# Altium footprint library SparkFun-Electromechanical.PCBLIB: 11 footprints
Each footprint in its own frame and in the unit in brackets; x right, y up, seen from the top. Pads: shape width x height; smd on the part's side, far side on the other; paste and mask are expansions set on the pad; w line width, h text height; cw(c..) or ccw(c..) is an arc to the next point about the centre after c.
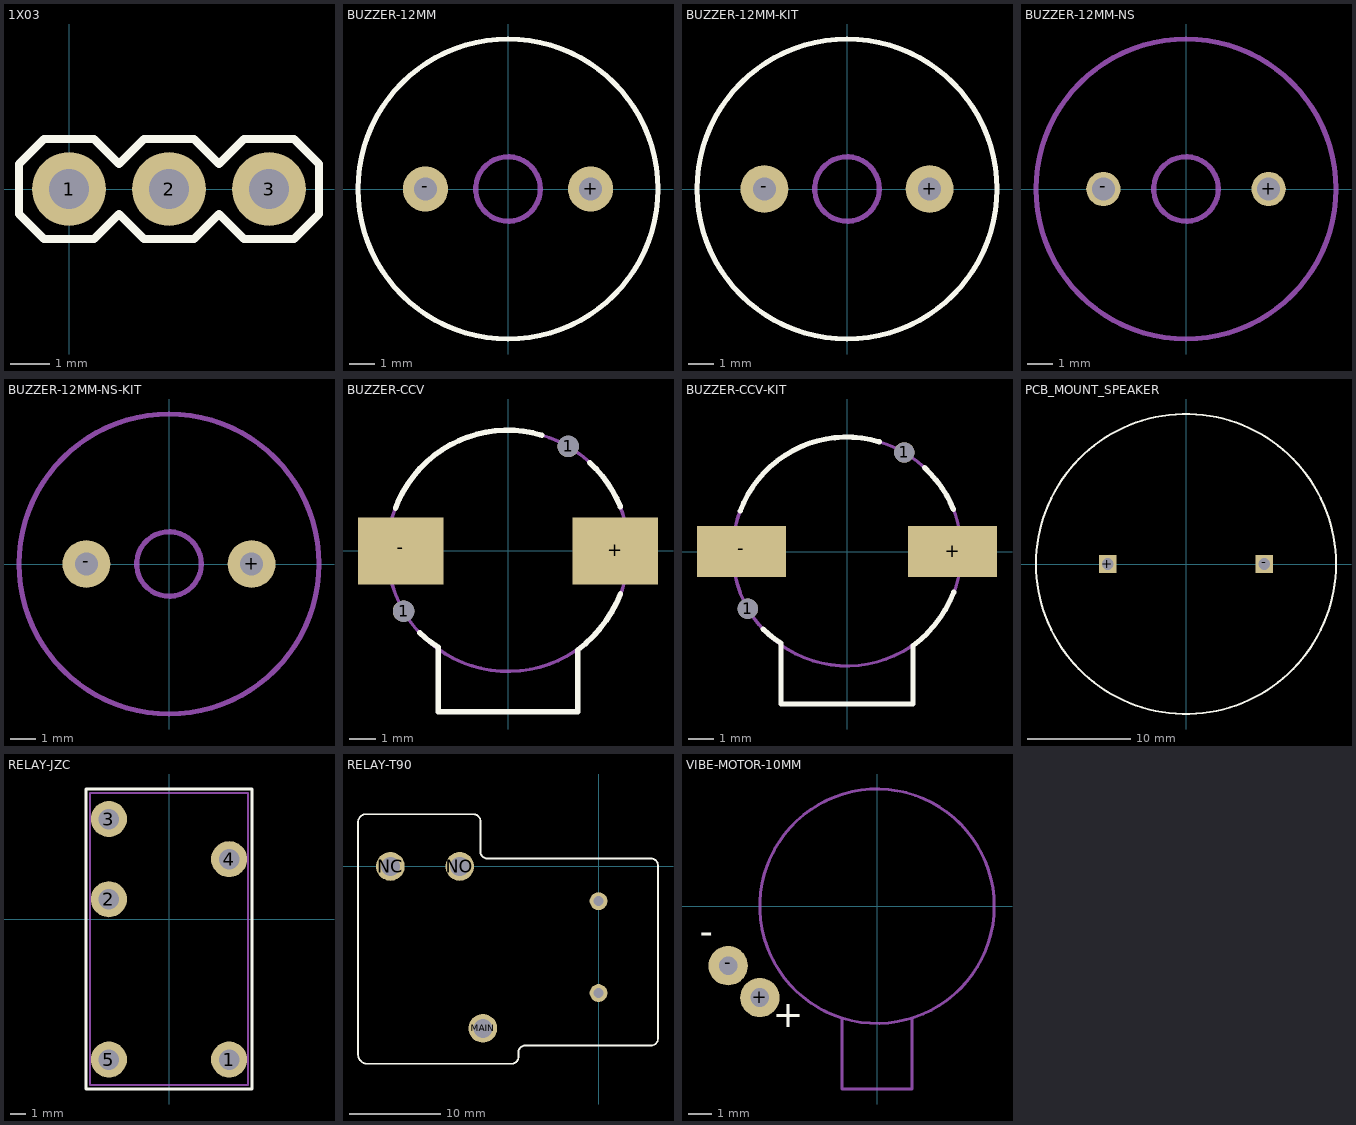
[diagram p0: the footprints below, top view; thin cyan lines are the x and y axes]

## 1X03 [mil]
pads (3):
  round 74 hole 40: 1(0,0) 2(100,0) 3(200,0)
Top Overlay:
  lines w8: -50,-25 -50,25 -25,50 25,50 50,25 75,50 125,50 150,25 175,50 225,50 250,25 250,-25 225,-50 175,-50 150,-25 125,-50 75,-50 50,-25 25,-50 -25,-50 -50,-25
Mechanical 16:
  rectangle: 190,-10 210,10
  rectangle: 90,-10 110,10
  rectangle: -10,-10 10,10

## BUZZER-12MM [mil]
pads (2):
  round 70 hole 35.43: +(127.95,0) -(-127.95,0)
Top Overlay:
  circle w8: c0,0 r232.28
Mechanical 16:
  circle w8: c0,0 r50

## BUZZER-12MM-KIT [mil]
pads (2):
  round 74 hole 35.43: +(127.95,0) -(-127.95,0)
Top Overlay:
  circle w8: c0,0 r232.28
Top Solder:
  region: 0,0 10,0 10,10 0,10
  region: 0,0 10,0 10,10 0,10
Bottom Solder:
  region: 0,0 10,0 10,10 0,10
  region: 0,0 10,0 10,10 0,10
Mechanical 16:
  circle w8: c0,0 r50
  text "+" at 105,45 h108.5

## BUZZER-12MM-NS [mil]
pads (2):
  round 53.15 hole 35.43: +(127.95,0) -(-127.95,0)
Mechanical 16:
  circle w8: c0,0 r232.28
  circle w8: c0,0 r50
  text "+" at 105,45 h108.5

## BUZZER-12MM-NS-KIT [mil]
pads (2):
  round 74 hole 35.43: +(127.95,0) -(-127.95,0)
Top Solder:
  region: 0,0 10,0 10,10 0,10
  region: 0,0 10,0 10,10 0,10
Bottom Solder:
  region: 0,0 10,0 10,10 0,10
  region: 0,0 10,0 10,10 0,10
Mechanical 16:
  circle w8: c0,0 r232.28
  circle w8: c0,0 r50
  text "+" at 105,45 h108.5

## BUZZER-CCV [mil]
pads (4):
  round 31.5 hole 31.5: 1(-153.54,-88.58) 1(88.58,153.54)
  rect 125.98x98.43 smd: +(157.48,0) -(-157.48,0)
Top Overlay:
  lines w8: -165.35,62.99 cw(c-0.44,1.31) 50,170 ; -130,-120 ccw(c-20.21,-8.79) -102.36,-141.73 -102.36,-236.22 102.36,-236.22 102.36,-145.67 ccw(c-12.21,6.95) 165.35,-62.99 ; 120,130 cw(c0,-1.15) 165,65
Mechanical 16:
  circle w5: c0,0 r177.17
  lines w5: -102.36,-145.67 -102.36,-236.22 102.36,-236.22 102.36,-145.67

## BUZZER-CCV-KIT [mil]
pads (4):
  round 31.5 hole 31.5: 1(-153.54,-88.58) 1(88.58,153.54)
  rect 137.8x78.74 smd: +(163.39,0) -(-163.39,0)
Top Overlay:
  lines w8: -165.35,62.99 cw(c-0.44,1.31) 50,170 ; -130,-120 ccw(c-20.21,-8.79) -102.36,-141.73 -102.36,-236.22 102.36,-236.22 102.36,-145.67 ccw(c-12.21,6.95) 165.35,-62.99 ; 120,130 cw(c0,-1.15) 165,65
Mechanical 16:
  circle w5: c0,0 r177.17
  rectangle: -204.72,-29.53 -114.17,29.53
  region: 204.72,29.53 114.17,29.53 114.17,-29.53 204.72,-29.53
  lines w5: -102.36,-145.67 -102.36,-236.22 102.36,-236.22 102.36,-145.67

## PCB_MOUNT_SPEAKER [mil]
pads (2):
  rect 67.5x67.5 hole 45: +(-300,0) -(300,0)
Top Overlay:
  circle w8: c0,0 r575

## RELAY-JZC [mil]
pads (5):
  round 90 hole 51.18: 1(150,-350) 2(-150,50) 3(-150,250) 4(150,150) 5(-150,-350)
Top Overlay:
  lines w8: -206.85,-423.39 -206.85,324.96 206.85,324.96 206.85,-423.39 -206.85,-423.39
Mechanical 16:
  lines w5: -196.85,-413.39 196.85,-413.39 196.85,314.96 -196.85,314.96 -196.85,-413.39

## RELAY-T90 [mil]
pads (5):
  round 77 hole 43.31: COIL1(0,-547.24) COIL2(0,-150)
  round 124.02 hole 82.68: MAIN(-500,-700) NC(-900,0) NO(-600,0)
Top Overlay:
  lines w8: -1039.76,-813.58 -1039.76,186.42 cw(c-1005.33,191.08) -1003.94,225.79 -540.35,225.79 cw(c-541.09,195.4) -510.83,198.23 -510.83,61.81 ccw(c-480.56,64.64) -481.3,34.25 227.36,34.25 cw(c226.62,3.86) 256.89,6.69 256.89,-746.65 cw(c225.72,-743.37) 231.3,-774.21 -317.32,-774.21 ccw(c-316.58,-804.6) -346.85,-801.77 -346.85,-825.39 cw(c-375.06,-824.76) -376.38,-852.95 -1003.94,-852.95 cw(c-999.71,-813.12) -1039.76,-813.58

## VIBE-MOTOR-10MM [mil]
pads (2):
  round 66 hole 31.5: +(-196.85,-153.54) -(-250,-100)
Top Overlay:
  text "-" at -297.72,-78.74 h77.5
  text "+" at -175.04,-218.66 h77.5
Mechanical 16:
  circle w5: c0,0 r196.89
  lines w5: -59.06,-188.98 -59.06,-307.09 59.06,-307.09 59.06,-188.98